# Altium integrated library WS-ROTV_rev15a.intlib: 20 symbols
Pins are listed as number, name and electrical type; pins without a type are passive.

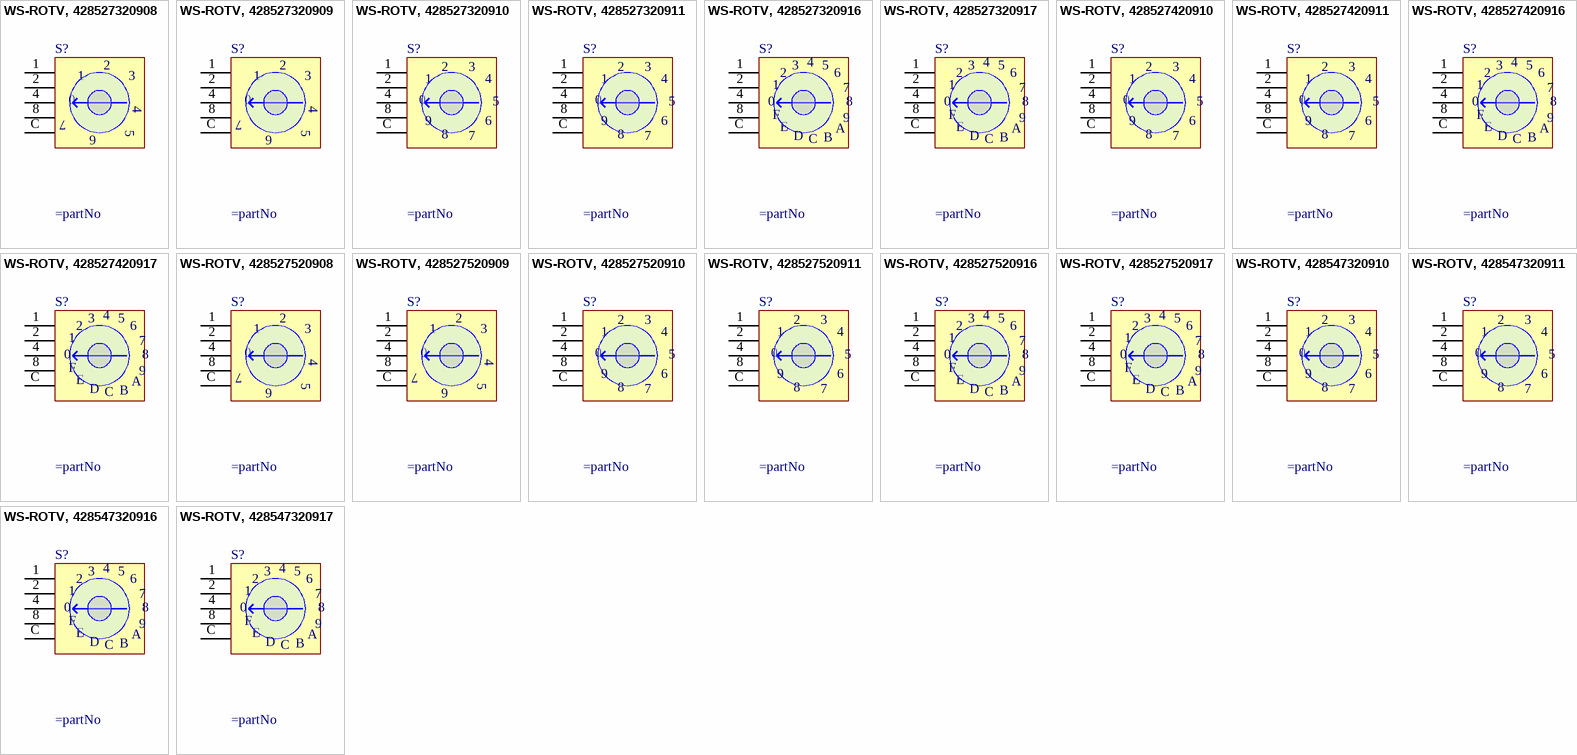
[diagram p0: symbols WS-ROTV, 428527320908 to WS-ROTV, 428547320917]

## WS-ROTV, 428527320908
designator S?
WS-ROTV 10x10 mm washable THT arrow type; Manufacturer: Wurth Elektronik; Part No.: 428527320908; ComponentLink1 Description: Manufacturer; ComponentLink2 Description: Datasheet; Created Date: Dec.2015; ComponentLink1URL: http://www.we-online.com; ComponentLink2URL: http://katalog.we-online.de/em/datasheet/428527320908.pdf; Created by: Baojun Chen
footprint 42852732090x_8 pos (8 position, 2.54mm Pitch, Horizontal type, THT, Round Arrow type, dark grey actuator, real code, Tube)
pins: 1, 2, 4, 8, C
text: 3; 0; 7; 6; 5

## WS-ROTV, 428527320909
designator S?
WS-ROTV 10x10 mm washable THT arrow type; Manufacturer: Wurth Elektronik; Part No.: 428527320909; ComponentLink1 Description: Manufacturer; ComponentLink2 Description: Datasheet; Created Date: Dec.2015; ComponentLink1URL: http://www.we-online.com; ComponentLink2URL: http://katalog.we-online.de/em/datasheet/428527320909.pdf; Created by: Baojun Chen
footprint 42852732090x_8 pos (8 position, 2.54mm Pitch, Horizontal type, THT, Round Arrow type, dark grey actuator, real code, Tube)
pins: 1, 2, 4, 8, C
text: 3; 0; 7; 6; 5

## WS-ROTV, 428527320910
designator S?
WS-ROTV 10x10 mm washable THT arrow type; Manufacturer: Wurth Elektronik; Part No.: 428527320910; ComponentLink1 Description: Manufacturer; ComponentLink2 Description: Datasheet; Created Date: Dec.2015; ComponentLink1URL: http://www.we-online.com; ComponentLink2URL: http://katalog.we-online.de/em/datasheet/428527320910.pdf; Created by: Baojun Chen
footprint 42852732091x_10 pos (8 position, 2.54mm Pitch, Horizontal type, THT, Round Arrow type, dark grey actuator, real code, Tube)
pins: 1, 2, 4, 8, C
text: 3; 0; 5; 9; 6; 7

## WS-ROTV, 428527320911
designator S?
WS-ROTV 10x10 mm washable THT arrow type; Manufacturer: Wurth Elektronik; Part No.: 428527320911; ComponentLink1 Description: Manufacturer; ComponentLink2 Description: Datasheet; Created Date: Dec.2015; ComponentLink1URL: http://www.we-online.com; ComponentLink2URL: http://katalog.we-online.de/em/datasheet/428527320911.pdf; Created by: Baojun Chen
footprint 42852732091x_10 pos (8 position, 2.54mm Pitch, Horizontal type, THT, Round Arrow type, dark grey actuator, real code, Tube)
pins: 1, 2, 4, 8, C
text: 3; 0; 5; 9; 6; 7

## WS-ROTV, 428527320916
designator S?
WS-ROTV 10x10 mm washable THT arrow type; Manufacturer: Wurth Elektronik; Part No.: 428527320916; ComponentLink1 Description: Manufacturer; ComponentLink2 Description: Datasheet; Created Date: Dec.2015; ComponentLink1URL: http://www.we-online.com; ComponentLink2URL: http://katalog.we-online.de/em/datasheet/428527320916.pdf; Created by: Baojun Chen
footprint 42852732091x_16 pos (8 position, 2.54mm Pitch, Horizontal type, THT, Round Arrow type, dark grey actuator, real code, Tube)
pins: 1, 2, 4, 8, C
text: 3; 5; 6; 7; 0; F; 9; E; A; D; B

## WS-ROTV, 428527320917
designator S?
WS-ROTV 10x10 mm washable THT arrow type; Manufacturer: Wurth Elektronik; Part No.: 428527320917; ComponentLink1 Description: Manufacturer; ComponentLink2 Description: Datasheet; Created Date: Dec.2015; ComponentLink1URL: http://www.we-online.com; ComponentLink2URL: http://katalog.we-online.de/em/datasheet/428527320917.pdf; Created by: Baojun Chen
footprint 42852732091x_16 pos (8 position, 2.54mm Pitch, Horizontal type, THT, Round Arrow type, dark grey actuator, real code, Tube)
pins: 1, 2, 4, 8, C
text: 3; 5; 6; 7; 0; F; 9; E; A; D; B

## WS-ROTV, 428527420910
designator S?
WS-ROTV 10x10 mm washable THT shaft type; Manufacturer: Wurth Elektronik; Part No.: 428527420910; ComponentLink1 Description: Manufacturer; ComponentLink2 Description: Datasheet; Created Date: Dec.2015; ComponentLink1URL: http://www.we-online.com; ComponentLink2URL: http://katalog.we-online.de/em/datasheet/428527420910.pdf; Created by: Baojun Chen
footprint 42852742091x_10 pos (10 position, 2.54mm Pitch, Horizontal type, THT, Round Shaft type, dark grey actuator, real code, Tube)
pins: 1, 2, 4, 8, C
text: 3; 0; 5; 9; 6; 7

## WS-ROTV, 428527420911
designator S?
WS-ROTV 10x10 mm washable THT shaft type; Manufacturer: Wurth Elektronik; Part No.: 428527420911; ComponentLink1 Description: Manufacturer; ComponentLink2 Description: Datasheet; Created Date: Dec.2015; ComponentLink1URL: http://www.we-online.com; ComponentLink2URL: http://katalog.we-online.de/em/datasheet/428527420911.pdf; Created by: Baojun Chen
footprint 42852742091x_10 pos (10 position, 2.54mm Pitch, Horizontal type, THT, Round Shaft type, dark grey actuator, real code, Tube)
pins: 1, 2, 4, 8, C
text: 3; 0; 5; 9; 6; 7

## WS-ROTV, 428527420916
designator S?
WS-ROTV 10x10 mm washable THT shaft type; Manufacturer: Wurth Elektronik; Part No.: 428527420916; ComponentLink1 Description: Manufacturer; ComponentLink2 Description: Datasheet; Created Date: Dec.2015; ComponentLink1URL: http://www.we-online.com; ComponentLink2URL: http://katalog.we-online.de/em/datasheet/428527420916.pdf; Created by: Baojun Chen
footprint 42852742091x_16 pos (10 position, 2.54mm Pitch, Horizontal type, THT, Round Shaft type, dark grey actuator, real code, Tube)
pins: 1, 2, 4, 8, C
text: 3; 5; 6; 7; 0; F; 9; E; A; D; B

## WS-ROTV, 428527420917
designator S?
WS-ROTV 10x10 mm washable THT shaft type; Manufacturer: Wurth Elektronik; Part No.: 428527420917; ComponentLink1 Description: Manufacturer; ComponentLink2 Description: Datasheet; Created Date: Dec.2015; ComponentLink1URL: http://www.we-online.com; ComponentLink2URL: http://katalog.we-online.de/em/datasheet/428527420917.pdf; Created by: Baojun Chen
footprint 42852742091x_16 pos (10 position, 2.54mm Pitch, Horizontal type, THT, Round Shaft type, dark grey actuator, real code, Tube)
pins: 1, 2, 4, 8, C
text: 3; 5; 6; 7; 0; F; 9; E; A; D; B

## WS-ROTV, 428527520908
designator S?
WS-ROTV 10x10 mm washable THT cross type; Manufacturer: Wurth Elektronik; Part No.: 428527520908; ComponentLink1 Description: Manufacturer; ComponentLink2 Description: Datasheet; Created Date: Dec.2015; ComponentLink1URL: http://www.we-online.com; ComponentLink2URL: http://katalog.we-online.de/em/datasheet/428527520908.pdf; Created by: Baojun Chen
footprint 42852752090x_8 pos (8 position, 2.54mm Pitch, Horizontal type, THT, Round Cross type, dark grey actuator, real code, Tube)
pins: 1, 2, 4, 8, C
text: 3; 0; 7; 6; 5

## WS-ROTV, 428527520909
designator S?
WS-ROTV 10x10 mm washable THT cross type; Manufacturer: Wurth Elektronik; Part No.: 428527520909; ComponentLink1 Description: Manufacturer; ComponentLink2 Description: Datasheet; Created Date: Dec.2015; ComponentLink1URL: http://www.we-online.com; ComponentLink2URL: http://katalog.we-online.de/em/datasheet/428527520909.pdf; Created by: Baojun Chen
footprint 42852752090x_8 pos (8 position, 2.54mm Pitch, Horizontal type, THT, Round Cross type, dark grey actuator, real code, Tube)
pins: 1, 2, 4, 8, C
text: 3; 0; 7; 6; 5

## WS-ROTV, 428527520910
designator S?
WS-ROTV 10x10 mm washable THT cross type; Manufacturer: Wurth Elektronik; Part No.: 428527520910; ComponentLink1 Description: Manufacturer; ComponentLink2 Description: Datasheet; Created Date: Dec.2015; ComponentLink1URL: http://www.we-online.com; ComponentLink2URL: http://katalog.we-online.de/em/datasheet/428527520910.pdf; Created by: Baojun Chen
footprint 42852752091x_10 pos (8 position, 2.54mm Pitch, Horizontal type, THT, Round Cross type, dark grey actuator, real code, Tube)
pins: 1, 2, 4, 8, C
text: 3; 0; 5; 9; 6; 7

## WS-ROTV, 428527520911
designator S?
WS-ROTV 10x10 mm washable THT cross type; Manufacturer: Wurth Elektronik; Part No.: 428527520911; ComponentLink1 Description: Manufacturer; ComponentLink2 Description: Datasheet; Created Date: Dec.2015; ComponentLink1URL: http://www.we-online.com; ComponentLink2URL: http://katalog.we-online.de/em/datasheet/428527520911.pdf; Created by: Baojun Chen
footprint 42852752091x_10 pos (8 position, 2.54mm Pitch, Horizontal type, THT, Round Cross type, dark grey actuator, real code, Tube)
pins: 1, 2, 4, 8, C
text: 3; 0; 5; 9; 6; 7

## WS-ROTV, 428527520916
designator S?
WS-ROTV 10x10 mm washable THT cross type; Manufacturer: Wurth Elektronik; Part No.: 428527520916; ComponentLink1 Description: Manufacturer; ComponentLink2 Description: Datasheet; Created Date: Dec.2015; ComponentLink1URL: http://www.we-online.com; ComponentLink2URL: http://katalog.we-online.de/em/datasheet/428527520916.pdf; Created by: Baojun Chen
footprint 42852752091x_16 pos (8 position, 2.54mm Pitch, Horizontal type, THT, Round Cross type, dark grey actuator, real code, Tube)
pins: 1, 2, 4, 8, C
text: 3; 5; 6; 7; 0; F; 9; E; A; D; B

## WS-ROTV, 428527520917
designator S?
WS-ROTV 10x10 mm washable THT cross type; Manufacturer: Wurth Elektronik; Part No.: 428527520917; ComponentLink1 Description: Manufacturer; ComponentLink2 Description: Datasheet; Created Date: Dec.2015; ComponentLink1URL: http://www.we-online.com; ComponentLink2URL: http://katalog.we-online.de/em/datasheet/428527520917.pdf; Created by: Baojun Chen
footprint 42852752091x_16 pos (8 position, 2.54mm Pitch, Horizontal type, THT, Round Cross type, dark grey actuator, real code, Tube)
pins: 1, 2, 4, 8, C
text: 3; 5; 6; 7; 0; F; 9; E; A; D; B

## WS-ROTV, 428547320910
designator S?
WS-ROTV 7x7 mm washable THT arrow type; Manufacturer: Wurth Elektronik; Part No.: 428547320910; ComponentLink1 Description: Manufacturer; ComponentLink2 Description: Datasheet; Created Date: Dec.2015; ComponentLink1URL: http://www.we-online.com; ComponentLink2URL: http://katalog.we-online.de/em/datasheet/428547320910.pdf; Created by: Baojun Chen
footprint 42854732091x_10 pos (7*7mm, 10 position, 2.54mm, horizontal type, THT, Round  Arrow type, red actuator, real code, Tube)
pins: 1, 2, 4, 8, C
text: 3; 0; 5; 9; 6; 7

## WS-ROTV, 428547320911
designator S?
WS-ROTV 7x7 mm washable THT arrow type; Manufacturer: Wurth Elektronik; Part No.: 428547320911; ComponentLink1 Description: Manufacturer; ComponentLink2 Description: Datasheet; Created Date: Dec.2015; ComponentLink1URL: http://www.we-online.com; ComponentLink2URL: http://katalog.we-online.de/em/datasheet/428547320911.pdf; Created by: Baojun Chen
footprint 42854732091x_10 pos (7*7mm, 10 position, 2.54mm, horizontal type, THT, Round  Arrow type, red actuator, real code, Tube)
pins: 1, 2, 4, 8, C
text: 3; 0; 5; 9; 6; 7

## WS-ROTV, 428547320916
designator S?
WS-ROTV 7x7 mm washable THT arrow type; Manufacturer: Wurth Elektronik; Part No.: 428547320916; ComponentLink1 Description: Manufacturer; ComponentLink2 Description: Datasheet; Created Date: Dec.2015; ComponentLink1URL: http://www.we-online.com; ComponentLink2URL: http://katalog.we-online.de/em/datasheet/428547320916.pdf; Created by: Baojun Chen
footprint 42854732091x_16 pos (7*7mm, 10 position, 2.54mm, horizontal type, THT, Round  Arrow type, red actuator, real code, Tube)
pins: 1, 2, 4, 8, C
text: 3; 5; 6; 7; 0; F; 9; E; A; D; B

## WS-ROTV, 428547320917
designator S?
WS-ROTV 7x7 mm washable THT arrow type; Manufacturer: Wurth Elektronik; Part No.: 428547320917; ComponentLink1 Description: Manufacturer; ComponentLink2 Description: Datasheet; Created Date: Dec.2015; ComponentLink1URL: http://www.we-online.com; ComponentLink2URL: http://katalog.we-online.de/em/datasheet/428547320917.pdf; Created by: Baojun Chen
footprint 42854732091x_16 pos (7*7mm, 10 position, 2.54mm, horizontal type, THT, Round  Arrow type, red actuator, real code, Tube)
pins: 1, 2, 4, 8, C
text: 3; 5; 6; 7; 0; F; 9; E; A; D; B